# EAGLE library part 10PINMALE (library BrownSpaceEngineering)
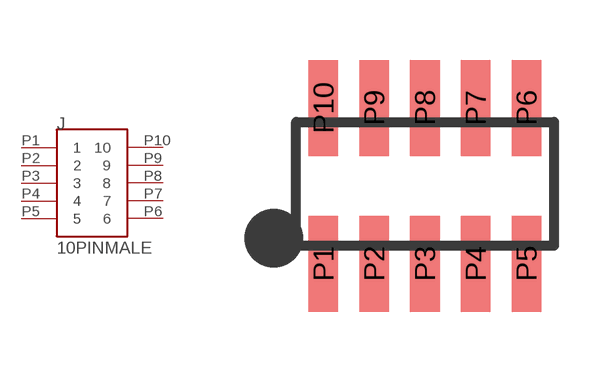
[diagram p8: symbol with the pads of 10PINMALE; footprint 10PINMALE]

Designator prefix J

## 10PINMALE  [10PINMALE]
P1  1
P2  2
P3  3
P4  4
P5  5
P6  6
P7  7
P8  8
P9  9
P10  10

## Footprint 10PINMALE (pad centres in mm)
smd 0.74 x 2.4: P1 -2.54,-1.95; P2 -1.27,-1.95; P3 0,-1.95; P4 1.27,-1.95; P5 2.54,-1.95; P6 2.54,1.95; P7 1.27,1.95; P8 0,1.95; P9 -1.27,1.95; P10 -2.54,1.95